# Altium footprint library CAP0805.PcbLib: 1 footprints
Each footprint in its own frame and in the unit in brackets; x right, y up, seen from the top. Pads: shape width x height; smd on the part's side, far side on the other; paste and mask are expansions set on the pad; w line width, h text height; cw(c..) or ccw(c..) is an arc to the next point about the centre after c.
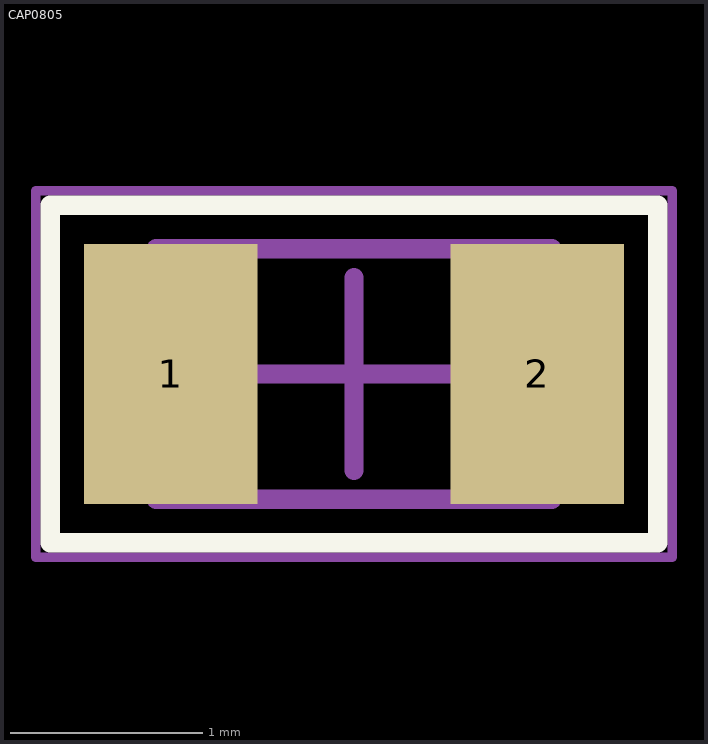
[diagram p0: the footprint, top view; thin cyan lines are the x and y axes]

## CAP0805 [mm]
height 0.5
pads (2):
  rect 0.9x1.35 smd: 1(5.364,2.66) 2(7.264,2.66)
Top Overlay:
  lines w0.1: 7.102,1.785 7.889,1.785 7.889,3.535 5.526,3.535 4.739,3.535 4.739,1.785 7.314,1.785
Mechanical 13:
  lines w0.1: 5.289,2.01 5.289,3.31 7.339,3.31 7.339,2.01 5.289,2.01
Mechanical 15:
  lines w0.05: 4.664,1.71 4.664,3.61 7.964,3.61 7.964,1.71 4.664,1.71
  lines w0.1: 5.814,2.66 6.814,2.66 ; 6.314,2.16 6.314,3.16
3D body "CAP0805.step": height 0.5, standoff 0, extent 5.289,2.01 7.339,3.31